# Altium schematic symbol library RES 680k 1_8W.Schlib: 1 symbol
Pins are listed as number, name and electrical type; pins without a type are passive.

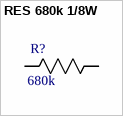
[diagram p0: symbol RES 680k 1/8W]

## RES 680k 1/8W
designator R?, comment 680k
RES SMD 680K OHM 5% 1/8W 0805
pins: 1 R1, 2 R2